# Altium schematic symbol library DA7280-00FVC.SchLib: 1 symbol
Pins are listed as number, name and electrical type; pins without a type are passive.

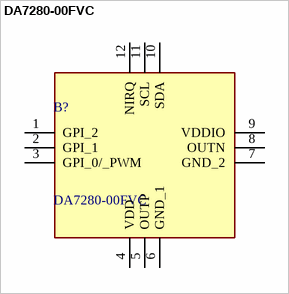
[diagram p0: symbol DA7280-00FVC]

## DA7280-00FVC
designator B?
Motor / Motion / Ignition Controllers & Drivers Haptic Driver ICLRA/ERM Haptic Driver with Multiple Input Triggers, Integrated Waveform Memory and Wideband Support; Manufacturer_Name: Renesas Electronics; Geometry.Height: 0.84mm; Farnell Part Number: *; Farnell Price/Stock: *; Manufacturer_Part_Number: DA7280-00FVC; Datasheet Link: https://www.dialog-semiconductor.com/sites/default/files/da7280_datasheet_3v0.pdf
footprint QFN65P300X300X84-12N
pins: 1 GPI_2, 2 GPI_1, 3 GPI_0/_PWM, 4 VDD, 5 OUTP, 6 GND_1, 7 GND_2, 8 OUTN, 9 VDDIO, 10 SDA, 11 SCL, 12 NIRQ